# EAGLE library part DS2438 (library 1Wire)
DS2438 Smart Battery Monitor Operating range -40ºC to +85ºC On-board A/D converter Elapsed time meter in binary format Software Compatible with the DS1822 Reverts to low-power sleep mode on battery pack disconnect Applications include portable computers, portable/cellular phones, consumer electronics, and handheld instrumentation
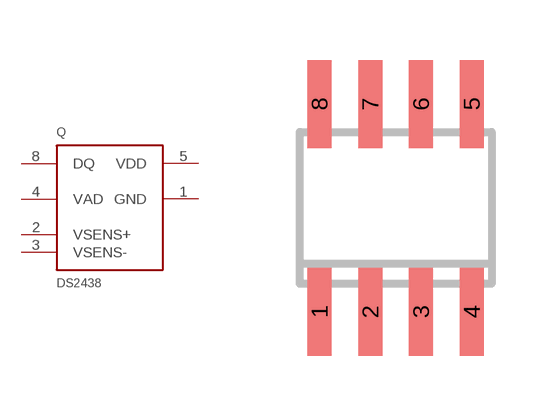
[diagram p0: symbol with the pads of SO-08; footprint SO-08]

Designator prefix Q

## DS2438Z  [SO-08]
1  GND  pwr
2  VSENS+
3  VSENS-
4  VAD
5  VDD  pwr
8  DQ

## Footprint SO-08 (pad centres in mm)
Small Outline Narrow Plastic Gull Wing 150-mil body, package type SN
smd 0.6 x 2.2: 1 -1.905,-2.6; 2 -0.635,-2.6; 3 0.635,-2.6; 4 1.905,-2.6; 5 1.905,2.6; 6 0.635,2.6; 7 -0.635,2.6; 8 -1.905,2.6